# Altium footprint library CON1_SMD_LAPJOINT_18AWG.PcbLib: 1 footprints
Each footprint in its own frame and in the unit in brackets; x right, y up, seen from the top. Pads: shape width x height; smd on the part's side, far side on the other; paste and mask are expansions set on the pad; w line width, h text height; cw(c..) or ccw(c..) is an arc to the next point about the centre after c.
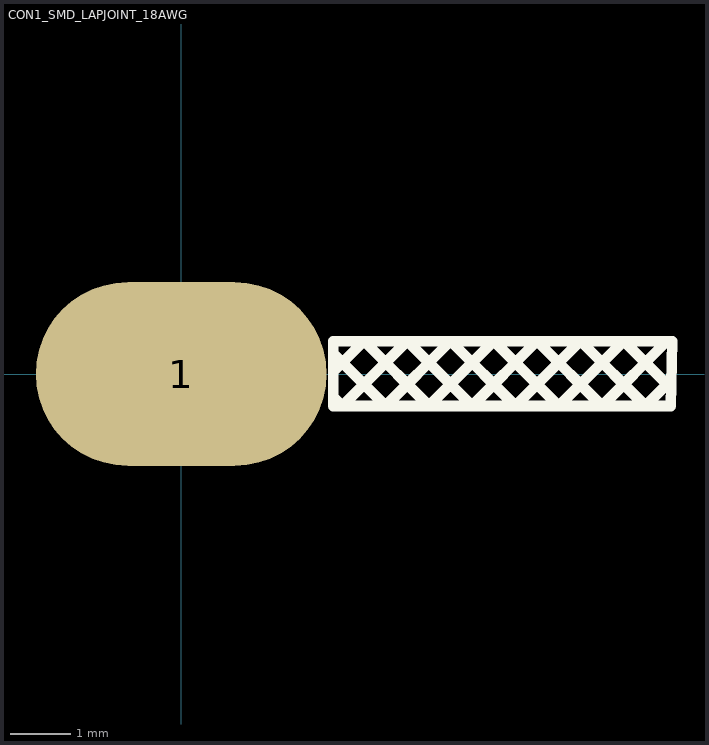
[diagram p0: the footprint, top view; thin cyan lines are the x and y axes]

## CON1_SMD_LAPJOINT_18AWG [mil]
pads (1):
  oval 190x120 smd paste-999 mask-10: 1(0,0)
Top Overlay:
  lines w7: 99.22,-14.83 105.23,-20.84 ; 99.22,1.52 119.15,21.45 ; 99.22,13.45 133.52,-20.84 ; 119.51,21.45 161.8,-20.84 ; 133.43,-20.84 175.72,21.45 ; 147.79,21.45 190.09,-20.84 ; 161.71,-20.84 204.01,21.45 ; 176.08,21.45 218.37,-20.84 ; 189.99,-20.84 232.29,21.45 ; 204.36,21.45 246.66,-20.84 ; 218.28,-20.84 260.57,21.45 ; 232.64,21.45 274.94,-20.84 ; 246.56,-20.84 288.86,21.45 ; 260.93,21.45 303.22,-20.84 ; 274.85,-20.84 317.14,21.45 ; 289.21,21.45 319.99,-9.33 ; 303.13,-20.84 320.12,-3.85 ; 317.5,21.45 320.65,18.3 ; 99.22,-20.84 319.72,-20.84 320.72,21.45 99.22,21.45 99.22,-20.84 ; 105.14,-20.84 147.44,21.45 105.14,-20.84